# EAGLE library part AVR-ISP (library tidyeagle)
Atmel ISP Header In 6 pin and 10 pin options.
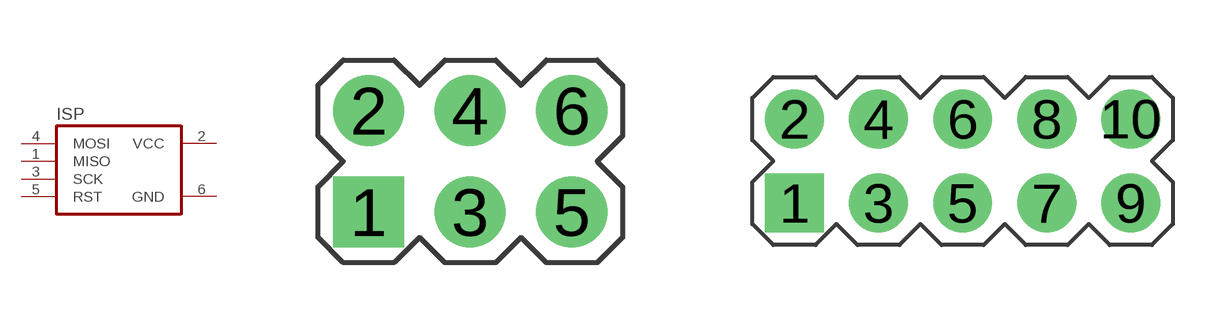
[diagram p6: symbol with the pads of AVR-ISP-6; footprints AVR-ISP-6, AVR-ISP-10]

Designator prefix ISP

## AVR-ISP-6PIN  [AVR-ISP-6]
1  MISO  in
2  VCC  pwr
3  SCK  out
4  MOSI  out
5  RST  out
6  GND  pwr

## AVR-ISP-10PIN  [AVR-ISP-10]
1  MOSI  out
2  VCC  pwr
4  GND  pwr
5  RST  out
7  SCK  out
9  MISO  in

## Footprint AVR-ISP-6 (pad centres in mm)
drill 1 pad 1.778 square: 1 -2.54,-1.27
drill 1 pad 1.778: 2 -2.54,1.27; 3 0,-1.27; 4 0,1.27; 5 2.54,-1.27; 6 2.54,1.27

## Footprint AVR-ISP-10 (pad centres in mm)
drill 1 pad 1.778 square: 1 -5.08,-1.27
drill 1 pad 1.778: 2 -5.08,1.27; 3 -2.54,-1.27; 4 -2.54,1.27; 5 0,-1.27; 6 0,1.27; 7 2.54,-1.27; 8 2.54,1.27; 9 5.08,-1.27; 10 5.08,1.27